# Altium footprint library MAX9814ETD_T.PcbLib: 1 footprints
Each footprint in its own frame and in the unit in brackets; x right, y up, seen from the top. Pads: shape width x height; smd on the part's side, far side on the other; paste and mask are expansions set on the pad; w line width, h text height; cw(c..) or ccw(c..) is an arc to the next point about the centre after c.
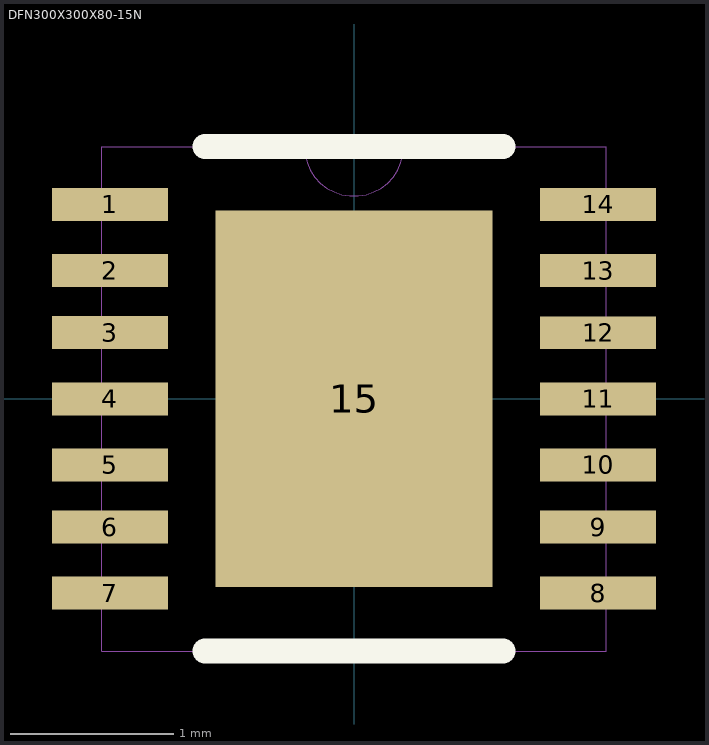
[diagram p0: the footprint, top view; thin cyan lines are the x and y axes]

## DFN300X300X80-15N [mil]
pads (15):
  rect 28x8 smd paste-1000 mask-1000: 1(-59,47) 2(-59,31) 3(-59,16) 4(-59,0) 5(-59,-16) 6(-59,-31) 7(-59,-47) 8(59,-47) 9(59,-31) 10(59,-16) 11(59,0) 13(59,31) 14(59,47)
  rect 28x7.87 smd paste-1000 mask-1000: 12(59,16)
  rect 67x91 smd paste-1000 mask-1000: 15(0,0)
Top Overlay:
  lines w6: -36,-61 36,-61 ; -36,61 36,61
Top Paste:
  region: -33.5,-45.5 33.5,-45.5 33.5,45.5 -33.5,45.5
  region: 45,42 73,42 73,52 45,52
  region: 45,26 73,26 73,36 45,36
  region: 45,11 73,11 73,21 45,21
  region: 45,-5 73,-5 73,5 45,5
  region: 45,-21 73,-21 73,-11 45,-11
  region: 45,-36 73,-36 73,-26 45,-26
  region: 45,-52 73,-52 73,-42 45,-42
  region: -73,-52 -45,-52 -45,-42 -73,-42
  region: -73,-36 -45,-36 -45,-26 -73,-26
  region: -73,-21 -45,-21 -45,-11 -73,-11
  region: -73,-5 -45,-5 -45,5 -73,5
  region: -73,11 -45,11 -45,21 -73,21
  region: -73,26 -45,26 -45,36 -73,36
  region: -73,42 -45,42 -45,52 -73,52
Top Solder:
  region: -37.44,-49.44 37.44,-49.44 37.44,49.44 -37.44,49.44
  region: 41.06,38.06 76.94,38.06 76.94,55.94 41.06,55.94
  region: 41.06,22.06 76.94,22.06 76.94,39.94 41.06,39.94
  region: 41.06,7.06 76.94,7.06 76.94,24.94 41.06,24.94
  region: 41.06,-8.94 76.94,-8.94 76.94,8.94 41.06,8.94
  region: 41.06,-24.94 76.94,-24.94 76.94,-7.06 41.06,-7.06
  region: 41.06,-39.94 76.94,-39.94 76.94,-22.06 41.06,-22.06
  region: 41.06,-55.94 76.94,-55.94 76.94,-38.06 41.06,-38.06
  region: -76.94,-55.94 -41.06,-55.94 -41.06,-38.06 -76.94,-38.06
  region: -76.94,-39.94 -41.06,-39.94 -41.06,-22.06 -76.94,-22.06
  region: -76.94,-24.94 -41.06,-24.94 -41.06,-7.06 -76.94,-7.06
  region: -76.94,-8.94 -41.06,-8.94 -41.06,8.94 -76.94,8.94
  region: -76.94,7.06 -41.06,7.06 -41.06,24.94 -76.94,24.94
  region: -76.94,22.06 -41.06,22.06 -41.06,39.94 -76.94,39.94
  region: -76.94,38.06 -41.06,38.06 -41.06,55.94 -76.94,55.94
Mechanical 1:
  lines w0: -12,61 ccw(c0,61) 12,61 ; -12,61 -61,61 -61,-61 61,-61 61,61 12,61 ; -12,61 12,61